# Altium schematic symbol library WR-TBL_Wire Protector.SchLib: 141 symbols (part 1 of 3)
Pins are listed as number, name and electrical type; pins without a type are passive.

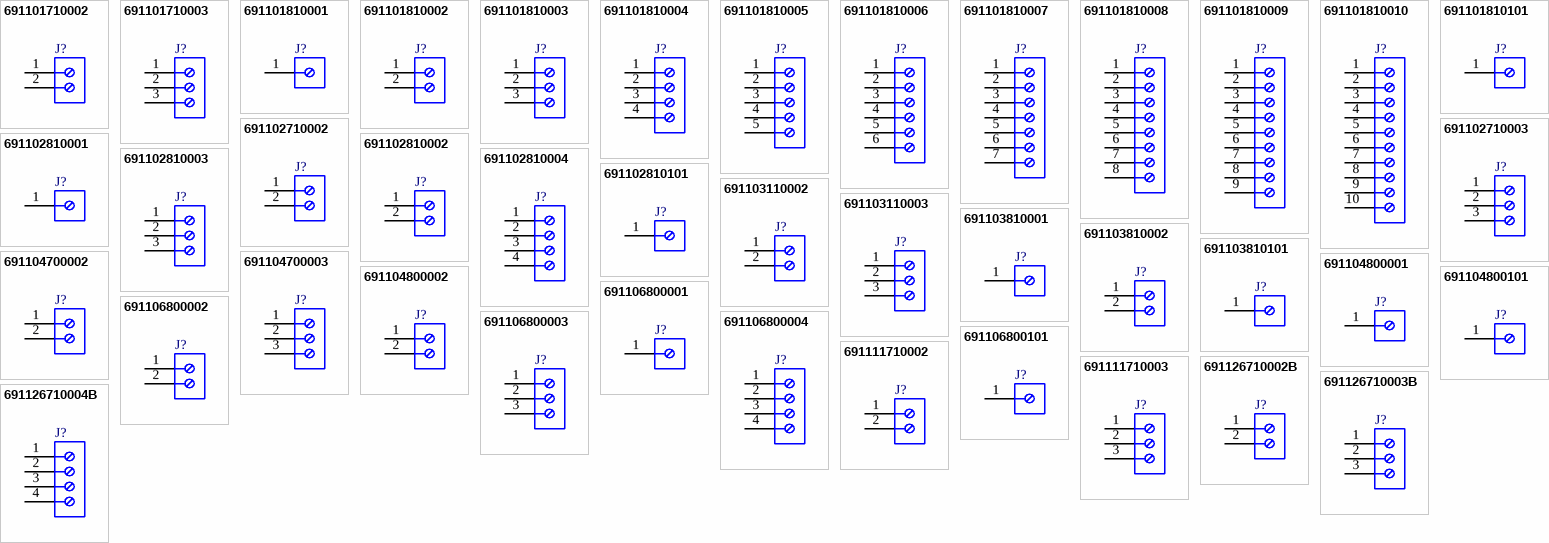
[diagram p0: symbols 691101710002 to 691126710004B]

## 691101710002
designator J?  (value not drawn)
WR-TBL Series 101 Horizontal Entry Modular, THT, pitch 5mm, 02p; Manufacturer: Wurth Elektronik; Modularity: Yes; Rated Current: 16A; Wire Section: 26 to 14 (AWG) 0.5 to 2.5 (mm^2); Working Voltage: 250V (AC); Manufacturer Part Number: 691101710002; Product Series: WR-TBL; ComponentLink1Description: Website Link; ComponentLink1URL: https://www.we-online.com; ComponentLink2Description: Datasheet Link; ComponentLink2URL: https://www.we-online.com/components/products/datasheet/691101710002; Mount: Through Hole; Operating Temperature Min: -40degC; Operating Temperature Max: 105degC; Packaging: Box; Application: Pressure Clamp; Number of Pins: 2; Number of Rows: 1; Orientation: Horizontal; Lead Pitch: 5mm
footprint 691101710002
pins: 1, 2

## 691101710003
designator J?  (value not drawn)
WR-TBL Series 101 Horizontal Entry Modular, THT, pitch 5mm, 03p; Manufacturer: Wurth Elektronik; Modularity: Yes; Rated Current: 16A; Wire Section: 26 to 14 (AWG) 0.5 to 2.5 (mm^2); Working Voltage: 250V (AC); Manufacturer Part Number: 691101710003; Product Series: WR-TBL; ComponentLink1Description: Website Link; ComponentLink1URL: https://www.we-online.com; ComponentLink2Description: Datasheet Link; ComponentLink2URL: https://www.we-online.com/components/products/datasheet/691101710003; Mount: Through Hole; Operating Temperature Min: -40degC; Operating Temperature Max: 105degC; Packaging: Box; Application: Pressure Clamp; Number of Pins: 3; Number of Rows: 1; Orientation: Horizontal; Lead Pitch: 5mm
footprint 691101710003
pins: 1, 2, 3

## 691101810001
designator J?  (value not drawn)
WR-TBL Series 1018 Modular Horizontal Cable Entry, THT, pitch 10mm, 01p; Manufacturer: Wurth Elektronik; Modularity: Yes; Rated Current: 16A; Working Voltage: 250V (AC); Manufacturer Part Number: 691101810001; Product Series: WR-TBL; ComponentLink1Description: Website Link; ComponentLink1URL: https://www.we-online.com; ComponentLink2Description: Datasheet Link; ComponentLink2URL: https://www.we-online.com/components/products/datasheet/691101810001; Mount: Through Hole; Operating Temperature Min: -40degC; Operating Temperature Max: 105degC; Packaging: Carton; Application: Wire Protector; Number of Pins: 1; Number of Rows: 1; Orientation: Horizontal Cable Entry; Lead Pitch: 10mm
footprint 691101810001
pins: 1

## 691101810002
designator J?  (value not drawn)
WR-TBL Series 1018 Modular Horizontal Cable Entry, THT, pitch 10mm, 02p; Manufacturer: Wurth Elektronik; Modularity: Yes; Rated Current: 16A; Working Voltage: 250V (AC); Manufacturer Part Number: 691101810002; Product Series: WR-TBL; ComponentLink1Description: Website Link; ComponentLink1URL: https://www.we-online.com; ComponentLink2Description: Datasheet Link; ComponentLink2URL: https://www.we-online.com/components/products/datasheet/691101810002; Mount: Through Hole; Operating Temperature Min: -40degC; Operating Temperature Max: 105degC; Packaging: Carton; Application: Wire Protector; Number of Pins: 2; Number of Rows: 1; Orientation: Horizontal Cable Entry; Lead Pitch: 10mm
footprint 691101810002
pins: 1, 2

## 691101810003
designator J?  (value not drawn)
WR-TBL Series 1018 Modular Horizontal Cable Entry, THT, pitch 10mm, 03p; Manufacturer: Wurth Elektronik; Modularity: Yes; Rated Current: 16A; Working Voltage: 250V (AC); Manufacturer Part Number: 691101810003; Product Series: WR-TBL; ComponentLink1Description: Website Link; ComponentLink1URL: https://www.we-online.com; ComponentLink2Description: Datasheet Link; ComponentLink2URL: https://www.we-online.com/components/products/datasheet/691101810003; Mount: Through Hole; Operating Temperature Min: -40degC; Operating Temperature Max: 105degC; Packaging: Carton; Application: Wire Protector; Number of Pins: 3; Number of Rows: 1; Orientation: Horizontal Cable Entry; Lead Pitch: 10mm
footprint 691101810003
pins: 1, 2, 3

## 691101810004
designator J?  (value not drawn)
WR-TBL Series 1018 Modular Horizontal Cable Entry, THT, pitch 10mm, 04p; Manufacturer: Wurth Elektronik; Modularity: Yes; Rated Current: 16A; Working Voltage: 250V (AC); Manufacturer Part Number: 691101810004; Product Series: WR-TBL; ComponentLink1Description: Website Link; ComponentLink1URL: https://www.we-online.com; ComponentLink2Description: Datasheet Link; ComponentLink2URL: https://www.we-online.com/components/products/datasheet/691101810004; Mount: Through Hole; Operating Temperature Min: -40degC; Operating Temperature Max: 105degC; Packaging: Carton; Application: Wire Protector; Number of Pins: 4; Number of Rows: 1; Orientation: Horizontal Cable Entry; Lead Pitch: 10mm
footprint 691101810004
pins: 1, 2, 3, 4

## 691101810005
designator J?  (value not drawn)
WR-TBL Series 1018 Modular Horizontal Cable Entry, THT, pitch 10mm, 05p; Manufacturer: Wurth Elektronik; Modularity: Yes; Rated Current: 16A; Working Voltage: 250V (AC); Manufacturer Part Number: 691101810005; Product Series: WR-TBL; ComponentLink1Description: Website Link; ComponentLink1URL: https://www.we-online.com; ComponentLink2Description: Datasheet Link; ComponentLink2URL: https://www.we-online.com/components/products/datasheet/691101810005; Mount: Through Hole; Operating Temperature Min: -40degC; Operating Temperature Max: 105degC; Packaging: Carton; Application: Wire Protector; Number of Pins: 5; Number of Rows: 1; Orientation: Horizontal Cable Entry; Lead Pitch: 10mm
footprint 691101810005
pins: 1, 2, 3, 4, 5

## 691101810006
designator J?  (value not drawn)
WR-TBL Series 1018 Modular Horizontal Cable Entry, THT, pitch 10mm, 06p; Manufacturer: Wurth Elektronik; Modularity: Yes; Rated Current: 16A; Working Voltage: 250V (AC); Manufacturer Part Number: 691101810006; Product Series: WR-TBL; ComponentLink1Description: Website Link; ComponentLink1URL: https://www.we-online.com; ComponentLink2Description: Datasheet Link; ComponentLink2URL: https://www.we-online.com/components/products/datasheet/691101810006; Mount: Through Hole; Operating Temperature Min: -40degC; Operating Temperature Max: 105degC; Packaging: Carton; Application: Wire Protector; Number of Pins: 6; Number of Rows: 1; Orientation: Horizontal Cable Entry; Lead Pitch: 10mm
footprint 691101810006
pins: 1, 2, 3, 4, 5, 6

## 691101810007
designator J?  (value not drawn)
WR-TBL Series 1018 Modular Horizontal Cable Entry, THT, pitch 10mm, 07p; Manufacturer: Wurth Elektronik; Modularity: Yes; Rated Current: 16A; Working Voltage: 250V (AC); Manufacturer Part Number: 691101810007; Product Series: WR-TBL; ComponentLink1Description: Website Link; ComponentLink1URL: https://www.we-online.com; ComponentLink2Description: Datasheet Link; ComponentLink2URL: https://www.we-online.com/components/products/datasheet/691101810007; Mount: Through Hole; Operating Temperature Min: -40degC; Operating Temperature Max: 105degC; Packaging: Carton; Application: Wire Protector; Number of Pins: 7; Number of Rows: 1; Orientation: Horizontal Cable Entry; Lead Pitch: 10mm
footprint 691101810007
pins: 1, 2, 3, 4, 5, 6, 7

## 691101810008
designator J?  (value not drawn)
WR-TBL Series 1018 Modular Horizontal Cable Entry, THT, pitch 10mm, 08p; Manufacturer: Wurth Elektronik; Modularity: Yes; Rated Current: 16A; Working Voltage: 250V (AC); Manufacturer Part Number: 691101810008; Product Series: WR-TBL; ComponentLink1Description: Website Link; ComponentLink1URL: https://www.we-online.com; ComponentLink2Description: Datasheet Link; ComponentLink2URL: https://www.we-online.com/components/products/datasheet/691101810008; Mount: Through Hole; Operating Temperature Min: -40degC; Operating Temperature Max: 105degC; Packaging: Carton; Application: Wire Protector; Number of Pins: 8; Number of Rows: 1; Orientation: Horizontal Cable Entry; Lead Pitch: 10mm
footprint 691101810008
pins: 1, 2, 3, 4, 5, 6, 7, 8

## 691101810009
designator J?  (value not drawn)
WR-TBL Series 1018 Modular Horizontal Cable Entry, THT, pitch 10mm, 09p; Manufacturer: Wurth Elektronik; Modularity: Yes; Rated Current: 16A; Working Voltage: 250V (AC); Manufacturer Part Number: 691101810009; Product Series: WR-TBL; ComponentLink1Description: Website Link; ComponentLink1URL: https://www.we-online.com; ComponentLink2Description: Datasheet Link; ComponentLink2URL: https://www.we-online.com/components/products/datasheet/691101810009; Mount: Through Hole; Operating Temperature Min: -40degC; Operating Temperature Max: 105degC; Packaging: Carton; Application: Wire Protector; Number of Pins: 9; Number of Rows: 1; Orientation: Horizontal Cable Entry; Lead Pitch: 10mm
footprint 691101810009
pins: 1, 2, 3, 4, 5, 6, 7, 8, 9

## 691101810010
designator J?  (value not drawn)
WR-TBL Series 1018 Modular Horizontal Cable Entry, THT, pitch 10mm, 10p; Manufacturer: Wurth Elektronik; Modularity: Yes; Rated Current: 16A; Working Voltage: 250V (AC); Manufacturer Part Number: 691101810010; Product Series: WR-TBL; ComponentLink1Description: Website Link; ComponentLink1URL: https://www.we-online.com; ComponentLink2Description: Datasheet Link; ComponentLink2URL: https://www.we-online.com/components/products/datasheet/691101810010; Mount: Through Hole; Operating Temperature Min: -40degC; Operating Temperature Max: 105degC; Packaging: Carton; Application: Wire Protector; Number of Pins: 10; Number of Rows: 1; Orientation: Horizontal Cable Entry; Lead Pitch: 10mm
footprint 691101810010
pins: 1, 2, 3, 4, 5, 6, 7, 8, 9, 10

## 691101810101
designator J?  (value not drawn)
WR-TBL Series 1018 Modular Horizontal Cable Entry, THT, pitch 10mm, 01p; Manufacturer: Wurth Elektronik; Modularity: Yes; Rated Current: 16A; Working Voltage: 250V (AC); Manufacturer Part Number: 691101810101; Product Series: WR-TBL; ComponentLink1Description: Website Link; ComponentLink1URL: https://www.we-online.com; ComponentLink2Description: Datasheet Link; ComponentLink2URL: https://www.we-online.com/components/products/datasheet/691101810101; Mount: Through Hole; Operating Temperature Min: -40degC; Operating Temperature Max: 105degC; Packaging: Carton; Application: Wire Protector; Number of Pins: 1; Number of Rows: 1; Orientation: Horizontal Cable Entry; Lead Pitch: 10mm
footprint 691101810101
pins: 1

## 691102710002
designator J?  (value not drawn)
WR-TBL Series 102 Horizontal Entry Modular, THT, pitch 5mm, 02p; Manufacturer: Wurth Elektronik; Modularity: Yes; Rated Current: 15A; Wire Section: 22 to 14 (AWG) 0.75 to 1.5 (mm^2); Working Voltage: 250V (AC); Manufacturer Part Number: 691102710002; Product Series: WR-TBL; ComponentLink1Description: Website Link; ComponentLink1URL: https://www.we-online.com; ComponentLink2Description: Datasheet Link; ComponentLink2URL: https://www.we-online.com/components/products/datasheet/691102710002; Mount: Through Hole; Operating Temperature Min: -40degC; Operating Temperature Max: 105degC; Packaging: Box; Application: Pressure Clamp; Number of Pins: 2; Number of Rows: 1; Orientation: Horizontal; Lead Pitch: 5mm
footprint 691102710002
pins: 1, 2

## 691102710003
designator J?  (value not drawn)
WR-TBL Series 102 Horizontal Entry Modular, THT, pitch 5mm, 03p; Manufacturer: Wurth Elektronik; Modularity: Yes; Rated Current: 15A; Wire Section: 22 to 14 (AWG) 0.75 to 1.5 (mm^2); Working Voltage: 250V (AC); Manufacturer Part Number: 691102710003; Product Series: WR-TBL; ComponentLink1Description: Website Link; ComponentLink1URL: https://www.we-online.com; ComponentLink2Description: Datasheet Link; ComponentLink2URL: https://www.we-online.com/components/products/datasheet/691102710003; Mount: Through Hole; Operating Temperature Min: -40degC; Operating Temperature Max: 105degC; Packaging: Box; Application: Pressure Clamp; Number of Pins: 3; Number of Rows: 1; Orientation: Horizontal; Lead Pitch: 5mm
footprint 691102710003
pins: 1, 2, 3

## 691102810001
designator J?  (value not drawn)
WR-TBL Series 1028 Modular Horizontal Cable Entry, THT, pitch 10mm, 01p; Manufacturer: Wurth Elektronik; Modularity: Yes; Rated Current: 15A; Working Voltage: 300V (AC); Manufacturer Part Number: 691102810001; Product Series: WR-TBL; ComponentLink1Description: Website Link; ComponentLink1URL: https://www.we-online.com; ComponentLink2Description: Datasheet Link; ComponentLink2URL: https://www.we-online.com/components/products/datasheet/691102810001; Mount: Through Hole; Operating Temperature Min: -40degC; Operating Temperature Max: 105degC; Packaging: Carton; Application: Wire Protector; Number of Pins: 1; Number of Rows: 1; Orientation: Horizontal Cable Entry; Lead Pitch: 10mm
footprint 691102810001
pins: 1

## 691102810002
designator J?  (value not drawn)
WR-TBL Series 1028 Modular Horizontal Cable Entry, THT, pitch 10mm, 02p; Manufacturer: Wurth Elektronik; Modularity: Yes; Rated Current: 15A; Working Voltage: 300V (AC); Manufacturer Part Number: 691102810002; Product Series: WR-TBL; ComponentLink1Description: Website Link; ComponentLink1URL: https://www.we-online.com; ComponentLink2Description: Datasheet Link; ComponentLink2URL: https://www.we-online.com/components/products/datasheet/691102810002; Mount: Through Hole; Operating Temperature Min: -40degC; Operating Temperature Max: 105degC; Packaging: Carton; Application: Wire Protector; Number of Pins: 2; Number of Rows: 1; Orientation: Horizontal Cable Entry; Lead Pitch: 10mm
footprint 691102810002
pins: 1, 2

## 691102810003
designator J?  (value not drawn)
WR-TBL Series 1028 Modular Horizontal Cable Entry, THT, pitch 10mm, 03p; Manufacturer: Wurth Elektronik; Modularity: Yes; Rated Current: 15A; Working Voltage: 300V (AC); Manufacturer Part Number: 691102810003; Product Series: WR-TBL; ComponentLink1Description: Website Link; ComponentLink1URL: https://www.we-online.com; ComponentLink2Description: Datasheet Link; ComponentLink2URL: https://www.we-online.com/components/products/datasheet/691102810003; Mount: Through Hole; Operating Temperature Min: -40degC; Operating Temperature Max: 105degC; Packaging: Carton; Application: Wire Protector; Number of Pins: 3; Number of Rows: 1; Orientation: Horizontal Cable Entry; Lead Pitch: 10mm
footprint 691102810003
pins: 1, 2, 3

## 691102810004
designator J?  (value not drawn)
WR-TBL Series 1028 Modular Horizontal Cable Entry, THT, pitch 10mm, 04p; Manufacturer: Wurth Elektronik; Modularity: Yes; Rated Current: 15A; Working Voltage: 300V (AC); Manufacturer Part Number: 691102810004; Product Series: WR-TBL; ComponentLink1Description: Website Link; ComponentLink1URL: https://www.we-online.com; ComponentLink2Description: Datasheet Link; ComponentLink2URL: https://www.we-online.com/components/products/datasheet/691102810004; Mount: Through Hole; Operating Temperature Min: -40degC; Operating Temperature Max: 105degC; Packaging: Carton; Application: Wire Protector; Number of Pins: 4; Number of Rows: 1; Orientation: Horizontal Cable Entry; Lead Pitch: 10mm
footprint 691102810004
pins: 1, 2, 3, 4

## 691102810101
designator J?  (value not drawn)
WR-TBL Series 1028 Modular Horizontal Cable Entry, THT, pitch 10mm, 01p; Manufacturer: Wurth Elektronik; Modularity: Yes; Rated Current: 15A; Working Voltage: 300V (AC); Manufacturer Part Number: 691102810101; Product Series: WR-TBL; ComponentLink1Description: Website Link; ComponentLink1URL: https://www.we-online.com; ComponentLink2Description: Datasheet Link; ComponentLink2URL: https://www.we-online.com/components/products/datasheet/691102810101; Mount: Through Hole; Operating Temperature Min: -40degC; Operating Temperature Max: 105degC; Packaging: Carton; Application: Wire Protector; Number of Pins: 1; Number of Rows: 1; Orientation: Horizontal Cable Entry; Lead Pitch: 10mm
footprint 691102810101
pins: 1

## 691103110002
designator J?  (value not drawn)
WR-TBL Series 1031 Horizontal Entry Modular, THT, pitch 3.5mm, 02p; Manufacturer: Wurth Elektronik; Modularity: Yes; Rated Current: 10A; Wire Section: 26 to 16 (AWG) 0.2 to 1 (mm^2); Working Voltage: 125V (AC); Manufacturer Part Number: 691103110002; Product Series: WR-TBL; ComponentLink1Description: Website Link; ComponentLink1URL: https://www.we-online.com; ComponentLink2Description: Datasheet Link; ComponentLink2URL: https://www.we-online.com/components/products/datasheet/691103110002; Mount: Through Hole; Operating Temperature Min: -40degC; Operating Temperature Max: 105degC; Packaging: Box; Application: Pressure Clamp; Number of Pins: 2; Number of Rows: 1; Orientation: Horizontal; Lead Pitch: 3.5mm
footprint 691103110002
pins: 1, 2

## 691103110003
designator J?  (value not drawn)
WR-TBL Series 1031 Horizontal Entry Modular, THT, pitch 3.5mm, 03p; Manufacturer: Wurth Elektronik; Modularity: Yes; Rated Current: 10A; Wire Section: 26 to 16 (AWG) 0.2 to 1 (mm^2); Working Voltage: 125V (AC); Manufacturer Part Number: 691103110003; Product Series: WR-TBL; ComponentLink1Description: Website Link; ComponentLink1URL: https://www.we-online.com; ComponentLink2Description: Datasheet Link; ComponentLink2URL: https://www.we-online.com/components/products/datasheet/691103110003; Mount: Through Hole; Operating Temperature Min: -40degC; Operating Temperature Max: 105degC; Packaging: Box; Application: Pressure Clamp; Number of Pins: 3; Number of Rows: 1; Orientation: Horizontal; Lead Pitch: 3.5mm
footprint 691103110003
pins: 1, 2, 3

## 691103810001
designator J?  (value not drawn)
WR-TBL Series 1038 Horizontal Entry, THT, pitch 10mm, 01p; Manufacturer: Wurth Elektronik; Modularity: Yes; Rated Current: 14A; Working Voltage: 300V (AC); Manufacturer Part Number: 691103810001; Product Series: WR-TBL; ComponentLink1Description: Website Link; ComponentLink1URL: https://www.we-online.com; ComponentLink2Description: Datasheet Link; ComponentLink2URL: https://www.we-online.com/components/products/datasheet/691103810001; Mount: Through Hole; Operating Temperature Min: -30degC; Operating Temperature Max: 120degC; Packaging: Box; Application: Pressure Clamp; Number of Pins: 1; Number of Rows: 1; Orientation: Horizontal; Lead Pitch: 10mm
footprint 691103810001
pins: 1

## 691103810002
designator J?  (value not drawn)
WR-TBL Series 1038 Horizontal Entry, THT, pitch 10mm, 02p; Manufacturer: Wurth Elektronik; Modularity: Yes; Rated Current: 14A; Working Voltage: 300V (AC); Manufacturer Part Number: 691103810002; Product Series: WR-TBL; ComponentLink1Description: Website Link; ComponentLink1URL: https://www.we-online.com; ComponentLink2Description: Datasheet Link; ComponentLink2URL: https://www.we-online.com/components/products/datasheet/691103810002; Mount: Through Hole; Operating Temperature Min: -30degC; Operating Temperature Max: 120degC; Packaging: Box; Application: Pressure Clamp; Number of Pins: 2; Number of Rows: 1; Orientation: Horizontal; Lead Pitch: 10mm
footprint 691103810002
pins: 1, 2

## 691103810101
designator J?  (value not drawn)
WR-TBL Series 1038 Horizontal Entry, THT, pitch 10mm, 01p; Manufacturer: Wurth Elektronik; Modularity: Yes; Rated Current: 14A; Working Voltage: 300V (AC); Manufacturer Part Number: 691103810101; Product Series: WR-TBL; ComponentLink1Description: Website Link; ComponentLink1URL: https://www.we-online.com; ComponentLink2Description: Datasheet Link; ComponentLink2URL: https://www.we-online.com/components/products/datasheet/691103810101; Mount: Through Hole; Operating Temperature Min: -30degC; Operating Temperature Max: 120degC; Packaging: Box; Application: Pressure Clamp; Number of Pins: 1; Number of Rows: 1; Orientation: Horizontal; Lead Pitch: 10mm
footprint 691103810101
pins: 1

## 691104700002
designator J?  (value not drawn)
WR-TBL Series 1047 Vertical Entry Modular, THT, pitch 5mm, 02p; Manufacturer: Wurth Elektronik; Modularity: Yes; Rated Current: 16A; Wire Section: 22 to 16 (AWG) 0.34 to 1 (mm^2); Working Voltage: 250V (AC); Manufacturer Part Number: 691104700002; Product Series: WR-TBL; ComponentLink1Description: Website Link; ComponentLink1URL: https://www.we-online.com; ComponentLink2Description: Datasheet Link; ComponentLink2URL: https://www.we-online.com/components/products/datasheet/691104700002; Mount: Through Hole; Operating Temperature Min: -40degC; Operating Temperature Max: 105degC; Packaging: Box; Application: Pressure Clamp; Number of Pins: 2; Number of Rows: 1; Orientation: Vertical; Lead Pitch: 5mm
footprint 691104700002
pins: 1, 2

## 691104700003
designator J?  (value not drawn)
WR-TBL Series 1047 Vertical Entry Modular, THT, pitch 5mm, 03p; Manufacturer: Wurth Elektronik; Modularity: Yes; Rated Current: 16A; Wire Section: 22 to 16 (AWG) 0.34 to 1 (mm^2); Working Voltage: 250V (AC); Manufacturer Part Number: 691104700003; Product Series: WR-TBL; ComponentLink1Description: Website Link; ComponentLink1URL: https://www.we-online.com; ComponentLink2Description: Datasheet Link; ComponentLink2URL: https://www.we-online.com/components/products/datasheet/691104700003; Mount: Through Hole; Operating Temperature Min: -40degC; Operating Temperature Max: 105degC; Packaging: Box; Application: Pressure Clamp; Number of Pins: 3; Number of Rows: 1; Orientation: Vertical; Lead Pitch: 5mm
footprint 691104700003
pins: 1, 2, 3

## 691104800001
designator J?  (value not drawn)
WR-TBL Series 1048 Vertical Entry Glow Wire, THT, pitch 10mm, 01p; Manufacturer: Wurth Elektronik; Modularity: Yes; Rated Current: 14A; Working Voltage: 300V (AC); Manufacturer Part Number: 691104800001; Product Series: WR-TBL; ComponentLink1Description: Website Link; ComponentLink1URL: https://www.we-online.com; ComponentLink2Description: Datasheet Link; ComponentLink2URL: https://www.we-online.com/components/products/datasheet/691104800001; Mount: Through Hole; Operating Temperature Min: -30degC; Operating Temperature Max: 120degC; Packaging: Box; Application: Pressure Clamp; Number of Pins: 1; Number of Rows: 1; Orientation: Vertical; Lead Pitch: 10mm
footprint 691104800001
pins: 1

## 691104800002
designator J?  (value not drawn)
WR-TBL Series 1048 Vertical Entry Glow Wire, THT, pitch 10mm, 02p; Manufacturer: Wurth Elektronik; Modularity: Yes; Rated Current: 14A; Working Voltage: 300V (AC); Manufacturer Part Number: 691104800002; Product Series: WR-TBL; ComponentLink1Description: Website Link; ComponentLink1URL: https://www.we-online.com; ComponentLink2Description: Datasheet Link; ComponentLink2URL: https://www.we-online.com/components/products/datasheet/691104800002; Mount: Through Hole; Operating Temperature Min: -30degC; Operating Temperature Max: 120degC; Packaging: Box; Application: Pressure Clamp; Number of Pins: 2; Number of Rows: 1; Orientation: Vertical; Lead Pitch: 10mm
footprint 691104800002
pins: 1, 2

## 691104800101
designator J?  (value not drawn)
WR-TBL Series 1048 Vertical Entry Glow Wire, THT, pitch 10mm, 01p; Manufacturer: Wurth Elektronik; Modularity: Yes; Rated Current: 14A; Working Voltage: 300V (AC); Manufacturer Part Number: 691104800101; Product Series: WR-TBL; ComponentLink1Description: Website Link; ComponentLink1URL: https://www.we-online.com; ComponentLink2Description: Datasheet Link; ComponentLink2URL: https://www.we-online.com/components/products/datasheet/691104800101; Mount: Through Hole; Operating Temperature Min: -30degC; Operating Temperature Max: 120degC; Packaging: Box; Application: Pressure Clamp; Number of Pins: 1; Number of Rows: 1; Orientation: Vertical; Lead Pitch: 10mm
footprint 691104800101
pins: 1

## 691106800001
designator J?  (value not drawn)
WR-TBL Series 1068 Modular Vertical Cable Entry, THT, pitch 10mm, 01p; Manufacturer: Wurth Elektronik; Modularity: Yes; Rated Current: 16A; Working Voltage: 250V (AC); Manufacturer Part Number: 691106800001; Product Series: WR-TBL; ComponentLink1Description: Website Link; ComponentLink1URL: https://www.we-online.com; ComponentLink2Description: Datasheet Link; ComponentLink2URL: https://www.we-online.com/components/products/datasheet/691106800001; Mount: Through Hole; Operating Temperature Min: -40degC; Operating Temperature Max: 105degC; Packaging: Carton; Application: Wire Protector; Number of Pins: 1; Number of Rows: 1; Orientation: Vertical Cable Entry; Lead Pitch: 10mm
footprint 691106800001
pins: 1

## 691106800002
designator J?  (value not drawn)
WR-TBL Series 1068 Modular Vertical Cable Entry, THT, pitch 10mm, 02p; Manufacturer: Wurth Elektronik; Modularity: Yes; Rated Current: 16A; Working Voltage: 250V (AC); Manufacturer Part Number: 691106800002; Product Series: WR-TBL; ComponentLink1Description: Website Link; ComponentLink1URL: https://www.we-online.com; ComponentLink2Description: Datasheet Link; ComponentLink2URL: https://www.we-online.com/components/products/datasheet/691106800002; Mount: Through Hole; Operating Temperature Min: -40degC; Operating Temperature Max: 105degC; Packaging: Carton; Application: Wire Protector; Number of Pins: 2; Number of Rows: 1; Orientation: Vertical Cable Entry; Lead Pitch: 10mm
footprint 691106800002
pins: 1, 2

## 691106800003
designator J?  (value not drawn)
WR-TBL Series 1068 Modular Vertical Cable Entry, THT, pitch 10mm, 03p; Manufacturer: Wurth Elektronik; Modularity: Yes; Rated Current: 16A; Working Voltage: 250V (AC); Manufacturer Part Number: 691106800003; Product Series: WR-TBL; ComponentLink1Description: Website Link; ComponentLink1URL: https://www.we-online.com; ComponentLink2Description: Datasheet Link; ComponentLink2URL: https://www.we-online.com/components/products/datasheet/691106800003; Mount: Through Hole; Operating Temperature Min: -40degC; Operating Temperature Max: 105degC; Packaging: Carton; Application: Wire Protector; Number of Pins: 3; Number of Rows: 1; Orientation: Vertical Cable Entry; Lead Pitch: 10mm
footprint 691106800003
pins: 1, 2, 3

## 691106800004
designator J?  (value not drawn)
WR-TBL Series 1068 Modular Vertical Cable Entry, THT, pitch 10mm, 04p; Manufacturer: Wurth Elektronik; Modularity: Yes; Rated Current: 16A; Working Voltage: 250V (AC); Manufacturer Part Number: 691106800004; Product Series: WR-TBL; ComponentLink1Description: Website Link; ComponentLink1URL: https://www.we-online.com; ComponentLink2Description: Datasheet Link; ComponentLink2URL: https://www.we-online.com/components/products/datasheet/691106800004; Mount: Through Hole; Operating Temperature Min: -40degC; Operating Temperature Max: 105degC; Packaging: Carton; Application: Wire Protector; Number of Pins: 4; Number of Rows: 1; Orientation: Vertical Cable Entry; Lead Pitch: 10mm
footprint 691106800004
pins: 1, 2, 3, 4

## 691106800101
designator J?  (value not drawn)
WR-TBL Series 1068 Modular Vertical Cable Entry, THT, pitch 10mm, 01p; Manufacturer: Wurth Elektronik; Modularity: Yes; Rated Current: 16A; Working Voltage: 250V (AC); Manufacturer Part Number: 691106800101; Product Series: WR-TBL; ComponentLink1Description: Website Link; ComponentLink1URL: https://www.we-online.com; ComponentLink2Description: Datasheet Link; ComponentLink2URL: https://www.we-online.com/components/products/datasheet/691106800101; Mount: Through Hole; Operating Temperature Min: -40degC; Operating Temperature Max: 105degC; Packaging: Carton; Application: Wire Protector; Number of Pins: 1; Number of Rows: 1; Orientation: Vertical Cable Entry; Lead Pitch: 10mm
footprint 691106800101
pins: 1

## 691111710002
designator J?  (value not drawn)
WR-TBL Series 111 Horizontal Entry Modular, THT, pitch 5mm, 02p; Manufacturer: Wurth Elektronik; Modularity: Yes; Rated Current: 15A; Wire Section: 24 to 14 (AWG) 0.2 to 1.5 (mm^2); Working Voltage: 250V (AC); Manufacturer Part Number: 691111710002; Product Series: WR-TBL; ComponentLink1Description: Website Link; ComponentLink1URL: https://www.we-online.com; ComponentLink2Description: Datasheet Link; ComponentLink2URL: https://www.we-online.com/components/products/datasheet/691111710002; Mount: Through Hole; Operating Temperature Min: -40degC; Operating Temperature Max: 105degC; Packaging: Box; Application: Pressure Clamp; Number of Pins: 2; Number of Rows: 1; Orientation: Horizontal; Lead Pitch: 5mm
footprint 691111710002
pins: 1, 2

## 691111710003
designator J?  (value not drawn)
WR-TBL Series 111 Horizontal Entry Modular, THT, pitch 5mm, 03p; Manufacturer: Wurth Elektronik; Modularity: Yes; Rated Current: 15A; Wire Section: 24 to 14 (AWG) 0.2 to 1.5 (mm^2); Working Voltage: 250V (AC); Manufacturer Part Number: 691111710003; Product Series: WR-TBL; ComponentLink1Description: Website Link; ComponentLink1URL: https://www.we-online.com; ComponentLink2Description: Datasheet Link; ComponentLink2URL: https://www.we-online.com/components/products/datasheet/691111710003; Mount: Through Hole; Operating Temperature Min: -40degC; Operating Temperature Max: 105degC; Packaging: Box; Application: Pressure Clamp; Number of Pins: 3; Number of Rows: 1; Orientation: Horizontal; Lead Pitch: 5mm
footprint 691111710003
pins: 1, 2, 3

## 691126710002B
designator J?  (value not drawn)
WR-TBL Series 126B Horizontal Entry, THT, pitch 5mm, 02p; Manufacturer: Wurth Elektronik; Modularity: Yes; Rated Current: 20A; Wire Section: 30 to 12 (AWG) 0.2 to 2.5 (mm^2); Working Voltage: 300V (AC); Manufacturer Part Number: 691126710002B; Product Series: WR-TBL; ComponentLink1Description: Website Link; ComponentLink1URL: https://www.we-online.com; ComponentLink2Description: Datasheet Link; ComponentLink2URL: https://www.we-online.com/components/products/datasheet/691126710002B; Mount: Through Hole; Operating Temperature Min: -40degC; Operating Temperature Max: 105degC; Packaging: Box; Application: Pressure Clamp; Number of Pins: 2; Number of Rows: 1; Orientation: Horizontal; Lead Pitch: 5mm
footprint 691126710002B
pins: 1, 2

## 691126710003B
designator J?  (value not drawn)
WR-TBL Series 126B Horizontal Entry, THT, pitch 5mm, 03p; Manufacturer: Wurth Elektronik; Modularity: Yes; Rated Current: 20A; Wire Section: 30 to 12 (AWG) 0.2 to 2.5 (mm^2); Working Voltage: 300V (AC); Manufacturer Part Number: 691126710003B; Product Series: WR-TBL; ComponentLink1Description: Website Link; ComponentLink1URL: https://www.we-online.com; ComponentLink2Description: Datasheet Link; ComponentLink2URL: https://www.we-online.com/components/products/datasheet/691126710003B; Mount: Through Hole; Operating Temperature Min: -40degC; Operating Temperature Max: 105degC; Packaging: Box; Application: Pressure Clamp; Number of Pins: 3; Number of Rows: 1; Orientation: Horizontal; Lead Pitch: 5mm
footprint 691126710003B
pins: 1, 2, 3

## 691126710004B
designator J?  (value not drawn)
WR-TBL Series 126B Horizontal Entry, THT, pitch 5mm, 04p; Manufacturer: Wurth Elektronik; Modularity: Yes; Rated Current: 20A; Wire Section: 30 to 12 (AWG) 0.2 to 2.5 (mm^2); Working Voltage: 300V (AC); Manufacturer Part Number: 691126710004B; Product Series: WR-TBL; ComponentLink1Description: Website Link; ComponentLink1URL: https://www.we-online.com; ComponentLink2Description: Datasheet Link; ComponentLink2URL: https://www.we-online.com/components/products/datasheet/691126710004B; Mount: Through Hole; Operating Temperature Min: -40degC; Operating Temperature Max: 105degC; Packaging: Box; Application: Pressure Clamp; Number of Pins: 4; Number of Rows: 1; Orientation: Horizontal; Lead Pitch: 5mm
footprint 691126710004B
pins: 1, 2, 3, 4

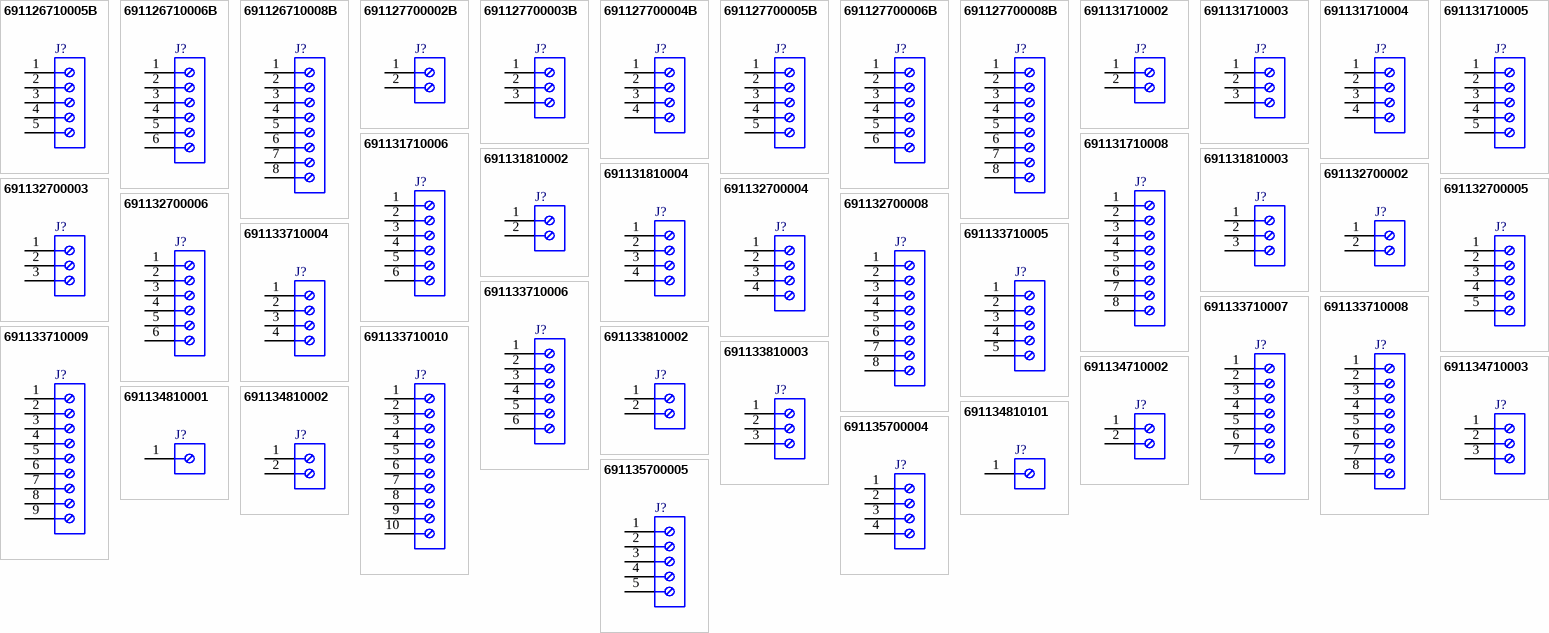
[diagram p1: symbols 691126710005B to 691135700005]

## 691126710005B
designator J?  (value not drawn)
WR-TBL Series 126B Horizontal Entry, THT, pitch 5mm, 05p; Manufacturer: Wurth Elektronik; Modularity: Yes; Rated Current: 20A; Wire Section: 30 to 12 (AWG) 0.2 to 2.5 (mm^2); Working Voltage: 300V (AC); Manufacturer Part Number: 691126710005B; Product Series: WR-TBL; ComponentLink1Description: Website Link; ComponentLink1URL: https://www.we-online.com; ComponentLink2Description: Datasheet Link; ComponentLink2URL: https://www.we-online.com/components/products/datasheet/691126710005B; Mount: Through Hole; Operating Temperature Min: -40degC; Operating Temperature Max: 105degC; Packaging: Box; Application: Pressure Clamp; Number of Pins: 5; Number of Rows: 1; Orientation: Horizontal; Lead Pitch: 5mm
footprint 691126710005B
pins: 1, 2, 3, 4, 5

## 691126710006B
designator J?  (value not drawn)
WR-TBL Series 126B Horizontal Entry, THT, pitch 5mm, 06p; Manufacturer: Wurth Elektronik; Modularity: Yes; Rated Current: 20A; Wire Section: 30 to 12 (AWG) 0.2 to 2.5 (mm^2); Working Voltage: 300V (AC); Manufacturer Part Number: 691126710006B; Product Series: WR-TBL; ComponentLink1Description: Website Link; ComponentLink1URL: https://www.we-online.com; ComponentLink2Description: Datasheet Link; ComponentLink2URL: https://www.we-online.com/components/products/datasheet/691126710006B; Mount: Through Hole; Operating Temperature Min: -40degC; Operating Temperature Max: 105degC; Packaging: Box; Application: Pressure Clamp; Number of Pins: 6; Number of Rows: 1; Orientation: Horizontal; Lead Pitch: 5mm
footprint 691126710006B
pins: 1, 2, 3, 4, 5, 6

## 691126710008B
designator J?  (value not drawn)
WR-TBL Series 126B Horizontal Entry, THT, pitch 5mm, 08p; Manufacturer: Wurth Elektronik; Modularity: Yes; Rated Current: 20A; Wire Section: 30 to 12 (AWG) 0.2 to 2.5 (mm^2); Working Voltage: 300V (AC); Manufacturer Part Number: 691126710008B; Product Series: WR-TBL; ComponentLink1Description: Website Link; ComponentLink1URL: https://www.we-online.com; ComponentLink2Description: Datasheet Link; ComponentLink2URL: https://www.we-online.com/components/products/datasheet/691126710008B; Mount: Through Hole; Operating Temperature Min: -40degC; Operating Temperature Max: 105degC; Packaging: Box; Application: Pressure Clamp; Number of Pins: 8; Number of Rows: 1; Orientation: Horizontal; Lead Pitch: 5mm
footprint 691126710008B
pins: 1, 2, 3, 4, 5, 6, 7, 8

## 691127700002B
designator J?  (value not drawn)
WR-TBL Series 127B Vertical Entry, THT, pitch 5mm, 02p; Manufacturer: Wurth Elektronik; Modularity: Yes; Rated Current: 20A; Wire Section: 30 to 12 (AWG) 0.2 to 2.5 (mm^2); Working Voltage: 300V (AC); Manufacturer Part Number: 691127700002B; Product Series: WR-TBL; ComponentLink1Description: Website Link; ComponentLink1URL: https://www.we-online.com; ComponentLink2Description: Datasheet Link; ComponentLink2URL: https://www.we-online.com/components/products/datasheet/691127700002B; Mount: Through Hole; Operating Temperature Min: -40degC; Operating Temperature Max: 105degC; Packaging: Box; Application: Pressure Clamp; Number of Pins: 2; Number of Rows: 1; Orientation: Vertical; Lead Pitch: 5mm
footprint 691127700002B
pins: 1, 2

## 691127700003B
designator J?  (value not drawn)
WR-TBL Series 127B Vertical Entry, THT, pitch 5mm, 03p; Manufacturer: Wurth Elektronik; Modularity: Yes; Rated Current: 20A; Wire Section: 30 to 12 (AWG) 0.2 to 2.5 (mm^2); Working Voltage: 300V (AC); Manufacturer Part Number: 691127700003B; Product Series: WR-TBL; ComponentLink1Description: Website Link; ComponentLink1URL: https://www.we-online.com; ComponentLink2Description: Datasheet Link; ComponentLink2URL: https://www.we-online.com/components/products/datasheet/691127700003B; Mount: Through Hole; Operating Temperature Min: -40degC; Operating Temperature Max: 105degC; Packaging: Box; Application: Pressure Clamp; Number of Pins: 3; Number of Rows: 1; Orientation: Vertical; Lead Pitch: 5mm
footprint 691127700003B
pins: 1, 2, 3

## 691127700004B
designator J?  (value not drawn)
WR-TBL Series 127B Vertical Entry, THT, pitch 5mm, 04p; Manufacturer: Wurth Elektronik; Modularity: Yes; Rated Current: 20A; Wire Section: 30 to 12 (AWG) 0.2 to 2.5 (mm^2); Working Voltage: 300V (AC); Manufacturer Part Number: 691127700004B; Product Series: WR-TBL; ComponentLink1Description: Website Link; ComponentLink1URL: https://www.we-online.com; ComponentLink2Description: Datasheet Link; ComponentLink2URL: https://www.we-online.com/components/products/datasheet/691127700004B; Mount: Through Hole; Operating Temperature Min: -40degC; Operating Temperature Max: 105degC; Packaging: Box; Application: Pressure Clamp; Number of Pins: 4; Number of Rows: 1; Orientation: Vertical; Lead Pitch: 5mm
footprint 691127700004B
pins: 1, 2, 3, 4

## 691127700005B
designator J?  (value not drawn)
WR-TBL Series 127B Vertical Entry, THT, pitch 5mm, 05p; Manufacturer: Wurth Elektronik; Modularity: Yes; Rated Current: 20A; Wire Section: 30 to 12 (AWG) 0.2 to 2.5 (mm^2); Working Voltage: 300V (AC); Manufacturer Part Number: 691127700005B; Product Series: WR-TBL; ComponentLink1Description: Website Link; ComponentLink1URL: https://www.we-online.com; ComponentLink2Description: Datasheet Link; ComponentLink2URL: https://www.we-online.com/components/products/datasheet/691127700005B; Mount: Through Hole; Operating Temperature Min: -40degC; Operating Temperature Max: 105degC; Packaging: Box; Application: Pressure Clamp; Number of Pins: 5; Number of Rows: 1; Orientation: Vertical; Lead Pitch: 5mm
footprint 691127700005B
pins: 1, 2, 3, 4, 5

## 691127700006B
designator J?  (value not drawn)
WR-TBL Series 127B Vertical Entry, THT, pitch 5mm, 06p; Manufacturer: Wurth Elektronik; Modularity: Yes; Rated Current: 20A; Wire Section: 30 to 12 (AWG) 0.2 to 2.5 (mm^2); Working Voltage: 300V (AC); Manufacturer Part Number: 691127700006B; Product Series: WR-TBL; ComponentLink1Description: Website Link; ComponentLink1URL: https://www.we-online.com; ComponentLink2Description: Datasheet Link; ComponentLink2URL: https://www.we-online.com/components/products/datasheet/691127700006B; Mount: Through Hole; Operating Temperature Min: -40degC; Operating Temperature Max: 105degC; Packaging: Box; Application: Pressure Clamp; Number of Pins: 6; Number of Rows: 1; Orientation: Vertical; Lead Pitch: 5mm
footprint 691127700006B
pins: 1, 2, 3, 4, 5, 6

## 691127700008B
designator J?  (value not drawn)
WR-TBL Series 127B Vertical Entry, THT, pitch 5mm, 08p; Manufacturer: Wurth Elektronik; Modularity: Yes; Rated Current: 20A; Wire Section: 30 to 12 (AWG) 0.2 to 2.5 (mm^2); Working Voltage: 300V (AC); Manufacturer Part Number: 691127700008B; Product Series: WR-TBL; ComponentLink1Description: Website Link; ComponentLink1URL: https://www.we-online.com; ComponentLink2Description: Datasheet Link; ComponentLink2URL: https://www.we-online.com/components/products/datasheet/691127700008B; Mount: Through Hole; Operating Temperature Min: -40degC; Operating Temperature Max: 105degC; Packaging: Box; Application: Pressure Clamp; Number of Pins: 8; Number of Rows: 1; Orientation: Vertical; Lead Pitch: 5mm
footprint 691127700008B
pins: 1, 2, 3, 4, 5, 6, 7, 8

## 691131710002
designator J?  (value not drawn)
WR-TBL Series 1317 Horizontal Entry, THT, pitch 5mm, 02p; Manufacturer: Wurth Elektronik; Modularity: No; Rated Current: 16A; Wire Section: 30 to 12 (AWG) 0.05 to 3.31 (mm^2); Working Voltage: 300V (AC); Manufacturer Part Number: 691131710002; Product Series: WR-TBL; ComponentLink1Description: Website Link; ComponentLink1URL: https://www.we-online.com; ComponentLink2Description: Datasheet Link; ComponentLink2URL: https://www.we-online.com/components/products/datasheet/691131710002; Mount: Through Hole; Operating Temperature Min: -30degC; Operating Temperature Max: 120degC; Packaging: Box; Application: Pressure Clamp Divisible; Number of Pins: 2; Number of Rows: 1; Orientation: Horizontal; Lead Pitch: 5mm
footprint 691131710002
pins: 1, 2

## 691131710003
designator J?  (value not drawn)
WR-TBL Series 1317 Horizontal Entry, THT, pitch 5mm, 03p; Manufacturer: Wurth Elektronik; Modularity: No; Rated Current: 16A; Wire Section: 30 to 12 (AWG) 0.05 to 3.31 (mm^2); Working Voltage: 300V (AC); Manufacturer Part Number: 691131710003; Product Series: WR-TBL; ComponentLink1Description: Website Link; ComponentLink1URL: https://www.we-online.com; ComponentLink2Description: Datasheet Link; ComponentLink2URL: https://www.we-online.com/components/products/datasheet/691131710003; Mount: Through Hole; Operating Temperature Min: -30degC; Operating Temperature Max: 120degC; Packaging: Box; Application: Pressure Clamp Divisible; Number of Pins: 3; Number of Rows: 1; Orientation: Horizontal; Lead Pitch: 5mm
footprint 691131710003
pins: 1, 2, 3

## 691131710004
designator J?  (value not drawn)
WR-TBL Series 1317 Horizontal Entry, THT, pitch 5mm, 04p; Manufacturer: Wurth Elektronik; Modularity: No; Rated Current: 16A; Wire Section: 30 to 12 (AWG) 0.05 to 3.31 (mm^2); Working Voltage: 300V (AC); Manufacturer Part Number: 691131710004; Product Series: WR-TBL; ComponentLink1Description: Website Link; ComponentLink1URL: https://www.we-online.com; ComponentLink2Description: Datasheet Link; ComponentLink2URL: https://www.we-online.com/components/products/datasheet/691131710004; Mount: Through Hole; Operating Temperature Min: -30degC; Operating Temperature Max: 120degC; Packaging: Box; Application: Pressure Clamp Divisible; Number of Pins: 4; Number of Rows: 1; Orientation: Horizontal; Lead Pitch: 5mm
footprint 691131710004
pins: 1, 2, 3, 4

## 691131710005
designator J?  (value not drawn)
WR-TBL Series 1317 Horizontal Entry, THT, pitch 5mm, 05p; Manufacturer: Wurth Elektronik; Modularity: No; Rated Current: 16A; Wire Section: 30 to 12 (AWG) 0.05 to 3.31 (mm^2); Working Voltage: 300V (AC); Manufacturer Part Number: 691131710005; Product Series: WR-TBL; ComponentLink1Description: Website Link; ComponentLink1URL: https://www.we-online.com; ComponentLink2Description: Datasheet Link; ComponentLink2URL: https://www.we-online.com/components/products/datasheet/691131710005; Mount: Through Hole; Operating Temperature Min: -30degC; Operating Temperature Max: 120degC; Packaging: Box; Application: Pressure Clamp Divisible; Number of Pins: 5; Number of Rows: 1; Orientation: Horizontal; Lead Pitch: 5mm
footprint 691131710005
pins: 1, 2, 3, 4, 5

## 691131710006
designator J?  (value not drawn)
WR-TBL Series 1317 Horizontal Entry, THT, pitch 5mm, 06p; Manufacturer: Wurth Elektronik; Modularity: No; Rated Current: 16A; Wire Section: 30 to 12 (AWG) 0.05 to 3.31 (mm^2); Working Voltage: 300V (AC); Manufacturer Part Number: 691131710006; Product Series: WR-TBL; ComponentLink1Description: Website Link; ComponentLink1URL: https://www.we-online.com; ComponentLink2Description: Datasheet Link; ComponentLink2URL: https://www.we-online.com/components/products/datasheet/691131710006; Mount: Through Hole; Operating Temperature Min: -30degC; Operating Temperature Max: 120degC; Packaging: Box; Application: Pressure Clamp Divisible; Number of Pins: 6; Number of Rows: 1; Orientation: Horizontal; Lead Pitch: 5mm
footprint 691131710006
pins: 1, 2, 3, 4, 5, 6

## 691131710008
designator J?  (value not drawn)
WR-TBL Series 1317 Horizontal Entry, THT, pitch 5mm, 08p; Manufacturer: Wurth Elektronik; Modularity: No; Rated Current: 16A; Wire Section: 30 to 12 (AWG) 0.05 to 3.31 (mm^2); Working Voltage: 300V (AC); Manufacturer Part Number: 691131710008; Product Series: WR-TBL; ComponentLink1Description: Website Link; ComponentLink1URL: https://www.we-online.com; ComponentLink2Description: Datasheet Link; ComponentLink2URL: https://www.we-online.com/components/products/datasheet/691131710008; Mount: Through Hole; Operating Temperature Min: -30degC; Operating Temperature Max: 120degC; Packaging: Box; Application: Pressure Clamp Divisible; Number of Pins: 8; Number of Rows: 1; Orientation: Horizontal; Lead Pitch: 5mm
footprint 691131710008
pins: 1, 2, 3, 4, 5, 6, 7, 8

## 691131810002
designator J?  (value not drawn)
WR-TBL Series 1318 Horizontal Cable Entry, THT, pitch 10mm, 02p; Manufacturer: Wurth Elektronik; Modularity: No; Rated Current: 16A; Wire Section: 30 to 12 (AWG) 0.05 to 3.31 (mm^2); Working Voltage: 300V (AC); Manufacturer Part Number: 691131810002; Product Series: WR-TBL; ComponentLink1Description: Website Link; ComponentLink1URL: https://www.we-online.com; ComponentLink2Description: Datasheet Link; ComponentLink2URL: https://www.we-online.com/components/products/datasheet/691131810002; Mount: Through Hole; Operating Temperature Min: -30degC; Operating Temperature Max: 120degC; Packaging: Box; Application: Pressure Clamp; Number of Pins: 2; Number of Rows: 1; Orientation: Horizontal; Lead Pitch: 10mm
footprint 691131810002
pins: 1, 2

## 691131810003
designator J?  (value not drawn)
WR-TBL Series 1318 Horizontal Cable Entry, THT, pitch 10mm, 03p; Manufacturer: Wurth Elektronik; Modularity: No; Rated Current: 16A; Wire Section: 30 to 12 (AWG) 0.05 to 3.31 (mm^2); Working Voltage: 300V (AC); Manufacturer Part Number: 691131810003; Product Series: WR-TBL; ComponentLink1Description: Website Link; ComponentLink1URL: https://www.we-online.com; ComponentLink2Description: Datasheet Link; ComponentLink2URL: https://www.we-online.com/components/products/datasheet/691131810003; Mount: Through Hole; Operating Temperature Min: -30degC; Operating Temperature Max: 120degC; Packaging: Box; Application: Pressure Clamp; Number of Pins: 3; Number of Rows: 1; Orientation: Horizontal; Lead Pitch: 10mm
footprint 691131810003
pins: 1, 2, 3

## 691131810004
designator J?  (value not drawn)
WR-TBL Series 1318 Horizontal Cable Entry, THT, pitch 10mm, 04p; Manufacturer: Wurth Elektronik; Modularity: No; Rated Current: 16A; Wire Section: 30 to 12 (AWG) 0.05 to 3.31 (mm^2); Working Voltage: 300V (AC); Manufacturer Part Number: 691131810004; Product Series: WR-TBL; ComponentLink1Description: Website Link; ComponentLink1URL: https://www.we-online.com; ComponentLink2Description: Datasheet Link; ComponentLink2URL: https://www.we-online.com/components/products/datasheet/691131810004; Mount: Through Hole; Operating Temperature Min: -30degC; Operating Temperature Max: 120degC; Packaging: Box; Application: Pressure Clamp; Number of Pins: 4; Number of Rows: 1; Orientation: Horizontal; Lead Pitch: 10mm
footprint 691131810004
pins: 1, 2, 3, 4

## 691132700002
designator J?  (value not drawn)
WR-TBL Series 1327 Vertical Entry, THT, pitch 5mm, 02p; Manufacturer: Wurth Elektronik; Modularity: No; Rated Current: 16A; Wire Section: 30 to 12 (AWG) 0.05 to 3.31 (mm^2); Working Voltage: 300V (AC); Manufacturer Part Number: 691132700002; Product Series: WR-TBL; ComponentLink1Description: Website Link; ComponentLink1URL: https://www.we-online.com; ComponentLink2Description: Datasheet Link; ComponentLink2URL: https://www.we-online.com/components/products/datasheet/691132700002; Mount: Through Hole; Operating Temperature Min: -30degC; Operating Temperature Max: 120degC; Packaging: Box; Application: Pressure Clamp Divisible; Number of Pins: 2; Number of Rows: 1; Orientation: Vertical; Lead Pitch: 5mm
footprint 691132700002
pins: 1, 2

## 691132700003
designator J?  (value not drawn)
WR-TBL Series 1327 Vertical Entry, THT, pitch 5mm, 03p; Manufacturer: Wurth Elektronik; Modularity: No; Rated Current: 16A; Wire Section: 30 to 12 (AWG) 0.05 to 3.31 (mm^2); Working Voltage: 300V (AC); Manufacturer Part Number: 691132700003; Product Series: WR-TBL; ComponentLink1Description: Website Link; ComponentLink1URL: https://www.we-online.com; ComponentLink2Description: Datasheet Link; ComponentLink2URL: https://www.we-online.com/components/products/datasheet/691132700003; Mount: Through Hole; Operating Temperature Min: -30degC; Operating Temperature Max: 120degC; Packaging: Box; Application: Pressure Clamp Divisible; Number of Pins: 3; Number of Rows: 1; Orientation: Vertical; Lead Pitch: 5mm
footprint 691132700003
pins: 1, 2, 3

## 691132700004
designator J?  (value not drawn)
WR-TBL Series 1327 Vertical Entry, THT, pitch 5mm, 04p; Manufacturer: Wurth Elektronik; Modularity: No; Rated Current: 16A; Wire Section: 30 to 12 (AWG) 0.05 to 3.31 (mm^2); Working Voltage: 300V (AC); Manufacturer Part Number: 691132700004; Product Series: WR-TBL; ComponentLink1Description: Website Link; ComponentLink1URL: https://www.we-online.com; ComponentLink2Description: Datasheet Link; ComponentLink2URL: https://www.we-online.com/components/products/datasheet/691132700004; Mount: Through Hole; Operating Temperature Min: -30degC; Operating Temperature Max: 120degC; Packaging: Box; Application: Pressure Clamp Divisible; Number of Pins: 4; Number of Rows: 1; Orientation: Vertical; Lead Pitch: 5mm
footprint 691132700004
pins: 1, 2, 3, 4

## 691132700005
designator J?  (value not drawn)
WR-TBL Series 1327 Vertical Entry, THT, pitch 5mm, 05p; Manufacturer: Wurth Elektronik; Modularity: No; Rated Current: 16A; Wire Section: 30 to 12 (AWG) 0.05 to 3.31 (mm^2); Working Voltage: 300V (AC); Manufacturer Part Number: 691132700005; Product Series: WR-TBL; ComponentLink1Description: Website Link; ComponentLink1URL: https://www.we-online.com; ComponentLink2Description: Datasheet Link; ComponentLink2URL: https://www.we-online.com/components/products/datasheet/691132700005; Mount: Through Hole; Operating Temperature Min: -30degC; Operating Temperature Max: 120degC; Packaging: Box; Application: Pressure Clamp Divisible; Number of Pins: 5; Number of Rows: 1; Orientation: Vertical; Lead Pitch: 5mm
footprint 691132700005
pins: 1, 2, 3, 4, 5

## 691132700006
designator J?  (value not drawn)
WR-TBL Series 1327 Vertical Entry, THT, pitch 5mm, 06p; Manufacturer: Wurth Elektronik; Modularity: No; Rated Current: 16A; Wire Section: 30 to 12 (AWG) 0.05 to 3.31 (mm^2); Working Voltage: 300V (AC); Manufacturer Part Number: 691132700006; Product Series: WR-TBL; ComponentLink1Description: Website Link; ComponentLink1URL: https://www.we-online.com; ComponentLink2Description: Datasheet Link; ComponentLink2URL: https://www.we-online.com/components/products/datasheet/691132700006; Mount: Through Hole; Operating Temperature Min: -30degC; Operating Temperature Max: 120degC; Packaging: Box; Application: Pressure Clamp Divisible; Number of Pins: 6; Number of Rows: 1; Orientation: Vertical; Lead Pitch: 5mm
footprint 691132700006
pins: 1, 2, 3, 4, 5, 6